# EAGLE library part MCU_LPC1114F28 (library akita)
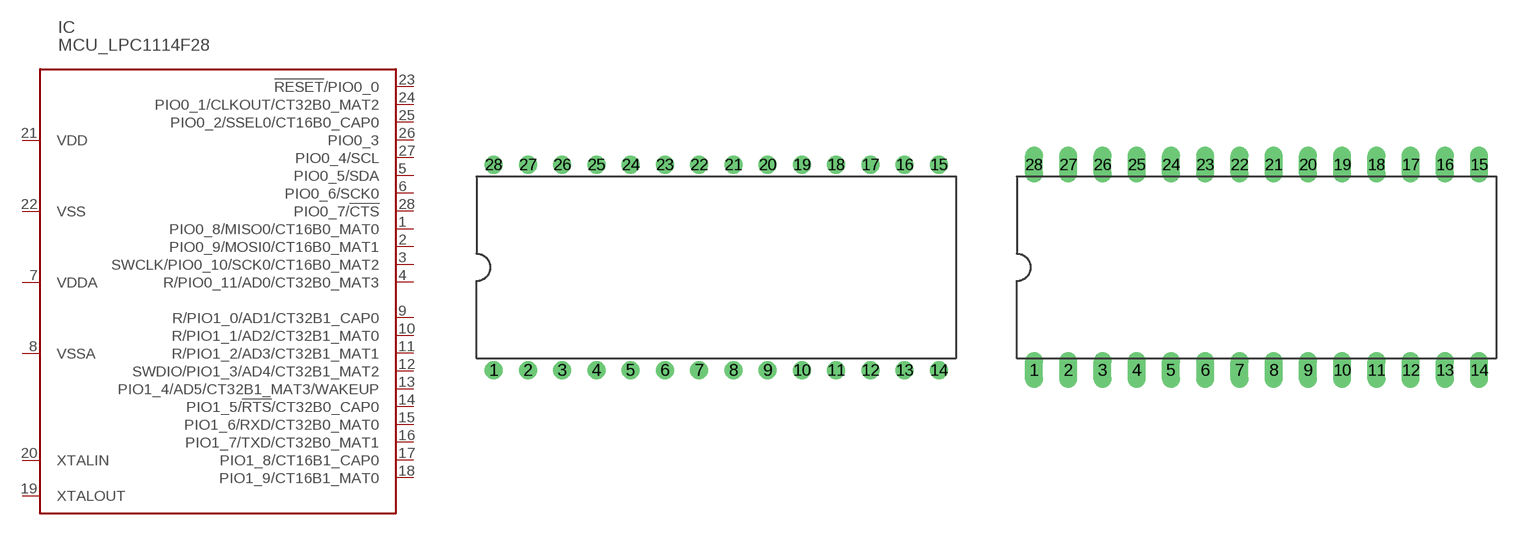
[diagram p97: symbol with the pads of DIP28R; footprints DIP28R, DIP28]

Designator prefix IC

## MCU_LPC1114F28  [DIP28R]
1  PIO0_8/MISO0/CT16B0_MAT0
2  PIO0_9/MOSI0/CT16B0_MAT1
3  SWCLK/PIO0_10/SCK0/CT16B0_MAT2
4  R/PIO0_11/AD0/CT32B0_MAT3
5  PIO0_5/SDA
6  PIO0_6/SCK0
7  VDDA  pwr
8  VSSA  pwr
9  R/PIO1_0/AD1/CT32B1_CAP0
10  R/PIO1_1/AD2/CT32B1_MAT0
11  R/PIO1_2/AD3/CT32B1_MAT1
12  SWDIO/PIO1_3/AD4/CT32B1_MAT2
13  PIO1_4/AD5/CT32B1_MAT3/WAKEUP
14  PIO1_5/!RTS!/CT32B0_CAP0
15  PIO1_6/RXD/CT32B0_MAT0
16  PIO1_7/TXD/CT32B0_MAT1
17  PIO1_8/CT16B1_CAP0
18  PIO1_9/CT16B1_MAT0
19  XTALOUT  pas
20  XTALIN  pas
21  VDD  pwr
22  VSS  pwr
23  !RESET!/PIO0_0
24  PIO0_1/CLKOUT/CT32B0_MAT2
25  PIO0_2/SSEL0/CT16B0_CAP0
26  PIO0_3
27  PIO0_4/SCL
28  PIO0_7/!CTS!

## MCU_LPC1114F28FN28  [DIP28]
Pads as for DIP28R

## MCU_LPC1114F28FDH28  [TSSOP28]
P$1  PIO0_8/MISO0/CT16B0_MAT0
P$2  PIO0_9/MOSI0/CT16B0_MAT1
P$3  SWCLK/PIO0_10/SCK0/CT16B0_MAT2
P$4  R/PIO0_11/AD0/CT32B0_MAT3
P$5  PIO0_5/SDA
P$6  PIO0_6/SCK0
P$7  VDDA  pwr
P$8  VSSA  pwr
P$9  R/PIO1_0/AD1/CT32B1_CAP0
P$10  R/PIO1_1/AD2/CT32B1_MAT0
P$11  R/PIO1_2/AD3/CT32B1_MAT1
P$12  SWDIO/PIO1_3/AD4/CT32B1_MAT2
P$13  PIO1_4/AD5/CT32B1_MAT3/WAKEUP
P$14  PIO1_5/!RTS!/CT32B0_CAP0
P$15  PIO1_6/RXD/CT32B0_MAT0
P$16  PIO1_7/TXD/CT32B0_MAT1
P$17  PIO1_8/CT16B1_CAP0
P$18  PIO1_9/CT16B1_MAT0
P$19  XTALOUT  pas
P$20  XTALIN  pas
P$21  VDD  pwr
P$22  VSS  pwr
P$23  !RESET!/PIO0_0
P$24  PIO0_1/CLKOUT/CT32B0_MAT2
P$25  PIO0_2/SSEL0/CT16B0_CAP0
P$26  PIO0_3
P$27  PIO0_4/SCL
P$28  PIO0_7/!CTS!

## Footprint DIP28R (pad centres in mm)
drill 0.813: 1 -16.51,-7.62; 2 -13.97,-7.62; 3 -11.43,-7.62; 4 -8.89,-7.62; 5 -6.35,-7.62; 6 -3.81,-7.62; 7 -1.27,-7.62; 8 1.27,-7.62; 9 3.81,-7.62; 10 6.35,-7.62; 11 8.89,-7.62; 12 11.43,-7.62; 13 13.97,-7.62; 14 16.51,-7.62; 15 16.51,7.62; 16 13.97,7.62; 17 11.43,7.62; 18 8.89,7.62; 19 6.35,7.62; 20 3.81,7.62; 21 1.27,7.62; 22 -1.27,7.62; 23 -3.81,7.62; 24 -6.35,7.62; 25 -8.89,7.62; 26 -11.43,7.62; 27 -13.97,7.62; 28 -16.51,7.62

## Footprint DIP28 (pad centres in mm)
drill 0.813 long: 1 -16.51,-7.62; 2 -13.97,-7.62; 3 -11.43,-7.62; 4 -8.89,-7.62; 5 -6.35,-7.62; 6 -3.81,-7.62; 7 -1.27,-7.62; 8 1.27,-7.62; 9 3.81,-7.62; 10 6.35,-7.62; 11 8.89,-7.62; 12 11.43,-7.62; 13 13.97,-7.62; 14 16.51,-7.62; 15 16.51,7.62; 16 13.97,7.62; 17 11.43,7.62; 18 8.89,7.62; 19 6.35,7.62; 20 3.81,7.62; 21 1.27,7.62; 22 -1.27,7.62; 23 -3.81,7.62; 24 -6.35,7.62; 25 -8.89,7.62; 26 -11.43,7.62; 27 -13.97,7.62; 28 -16.51,7.62

## Footprint TSSOP28 (pad centres in mm)
TSOP28 0.65mm W=8mm
smd 0.6 x 1.35: P$1 -4.325,-2.925; P$14 4.325,-2.925; P$15 4.325,2.925; P$28 -4.325,2.925
smd 0.4 x 1.35: P$2 -3.575,-2.925; P$3 -2.925,-2.925; P$4 -2.275,-2.925; P$5 -1.625,-2.925; P$6 -0.975,-2.925; P$7 -0.325,-2.925; P$8 0.325,-2.925; P$9 0.975,-2.925; P$10 1.625,-2.925; P$11 2.275,-2.925; P$12 2.925,-2.925; P$13 3.575,-2.925; P$16 3.575,2.925; P$17 2.925,2.925; P$18 2.275,2.925; P$19 1.625,2.925; P$20 0.975,2.925; P$21 0.325,2.925; P$22 -0.325,2.925; P$23 -0.975,2.925; P$24 -1.625,2.925; P$25 -2.275,2.925; P$26 -2.925,2.925; P$27 -3.575,2.925